# Altium footprint library Lib.PcbLib: 7 footprints
Each footprint in its own frame and in the unit in brackets; x right, y up, seen from the top. Pads: shape width x height; smd on the part's side, far side on the other; paste and mask are expansions set on the pad; w line width, h text height; cw(c..) or ccw(c..) is an arc to the next point about the centre after c.
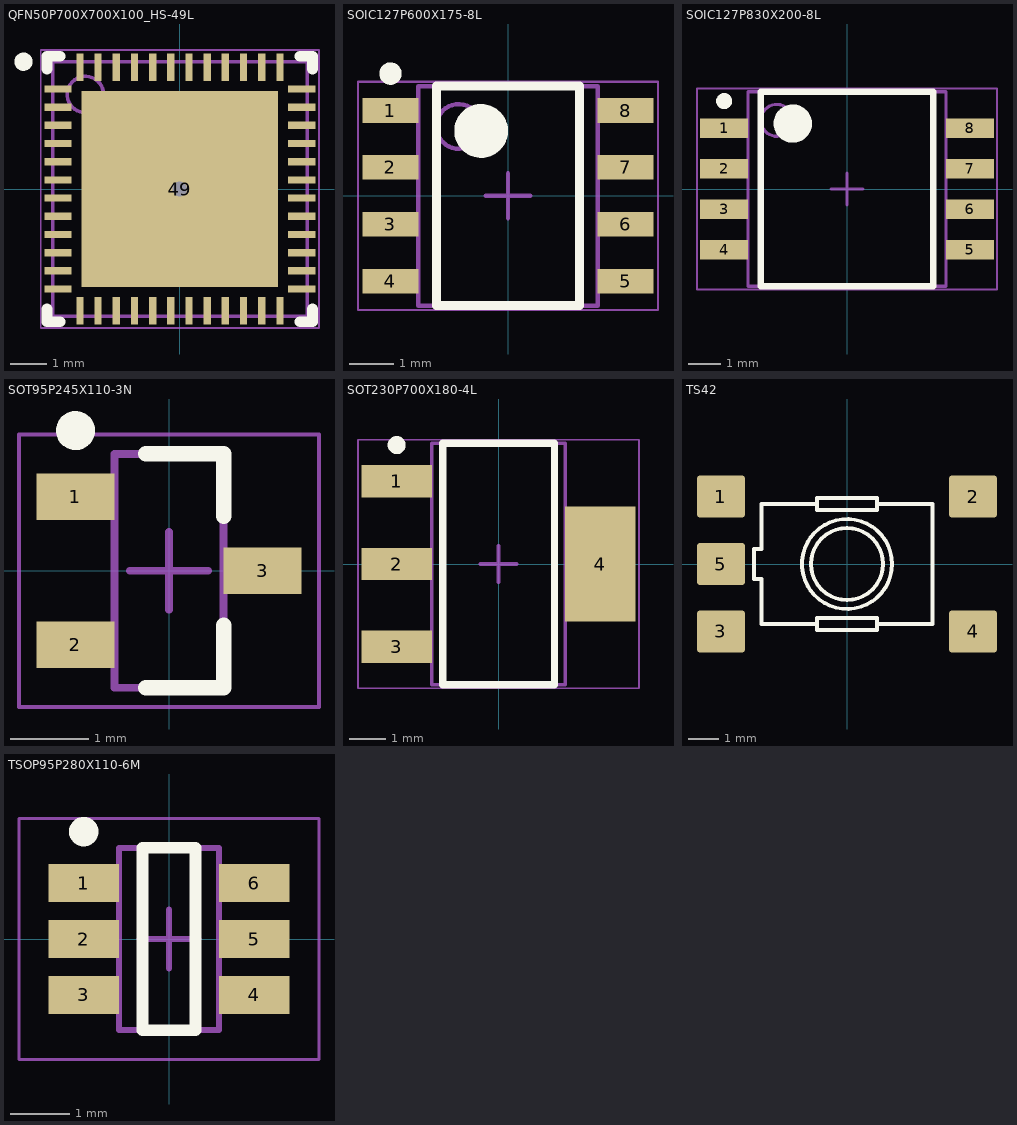
[diagram p0: the footprints below, top view; thin cyan lines are the x and y axes]

## QFN50P700X700X100_HS-49L [mm] "QFN, 48-Leads, Body 7.00x7.00mm, Pitch 0.50mm, Thermal Pad 5.40x5.40mm, IPC High Density"
height 1
pads (49):
  rect 0.75x0.2 smd: 1(-3.35,2.75) 2(-3.35,2.25) 3(-3.35,1.75) 4(-3.35,1.25) 5(-3.35,0.75) 6(-3.35,0.25) 7(-3.35,-0.25) 8(-3.35,-0.75) 9(-3.35,-1.25) 10(-3.35,-1.75) 11(-3.35,-2.25) 12(-3.35,-2.75) 25(3.35,-2.75) 26(3.35,-2.25) 27(3.35,-1.75) 28(3.35,-1.25) 29(3.35,-0.75) 30(3.35,-0.25) 31(3.35,0.25) 32(3.35,0.75) 33(3.35,1.25) 34(3.35,1.75) 35(3.35,2.25) 36(3.35,2.75)
  rect 0.2x0.75 smd: 13(-2.75,-3.35) 14(-2.25,-3.35) 15(-1.75,-3.35) 16(-1.25,-3.35) 17(-0.75,-3.35) 18(-0.25,-3.35) 19(0.25,-3.35) 20(0.75,-3.35) 21(1.25,-3.35) 22(1.75,-3.35) 23(2.25,-3.35) 24(2.75,-3.35) 37(2.75,3.35) 38(2.25,3.35) 39(1.75,3.35) 40(1.25,3.35) 41(0.75,3.35) 42(0.25,3.35) 43(-0.25,3.35) 44(-0.75,3.35) 45(-1.25,3.35) 46(-1.75,3.35) 47(-2.25,3.35) 48(-2.75,3.35)
  rect 5.4x5.4 smd: 49(0,0)
via 0,0 diameter 1 hole 0.4
Top Overlay:
  circle w0.25: c-4.3,3.5 r0.125
  lines w0.3: -3.65,-3.3 -3.65,-3.65 -3.3,-3.65 ; -3.65,3.3 -3.65,3.65 -3.3,3.65 ; 3.3,-3.65 3.65,-3.65 3.65,-3.3 ; 3.3,3.65 3.65,3.65 3.65,3.3
Mechanical 13:
  circle w0.1: c-2.6,2.6 r0.5
  lines w0.1: -3.5,-3.5 3.5,-3.5 3.5,3.5 -3.5,3.5 -3.5,-3.5
Mechanical 15:
  lines w0.05: -3.825,-3.825 3.825,-3.825 3.825,3.825 -3.825,3.825 -3.825,-3.825
  lines w0.1: -0.5,0 0.5,0 ; 0,-0.5 0,0.5
3D body "QFN50P700X700X100_HS-49L.step": height 1, standoff 0, extent -3.55,-3.55 3.55,3.55

## SOIC127P600X175-8L [mm] "SOIC, 8-Leads, Body 4.85x3.90mm, Pitch 1.27mm, IPC High Density"
height 1.75
pads (8):
  rect 1.25x0.55 smd: 1(-2.625,1.905) 2(-2.625,0.635) 3(-2.625,-0.635) 4(-2.625,-1.905) 5(2.625,-1.905) 6(2.625,-0.635) 7(2.625,0.635) 8(2.625,1.905)
Top Overlay:
  circle w0.6: c-0.6,1.45 r0.3
  circle w0.25: c-2.625,2.73 r0.125
  lines w0.2: -1.6,-2.45 1.6,-2.45 1.6,2.45 -1.6,2.45 -1.6,-2.45
Mechanical 13:
  circle w0.1: c-1.1,1.55 r0.5
  lines w0.1: -2,-2.45 2,-2.45 2,2.45 -2,2.45 -2,-2.45
Mechanical 15:
  lines w0.05: -3.35,-2.55 3.35,-2.55 3.35,2.55 -3.35,2.55 -3.35,-2.55
  lines w0.1: -0.5,0 0.5,0 ; 0,-0.5 0,0.5
3D body "SOIC127P600X175-8L.step": height 1.75, standoff 0, extent -3,-2.45 3,2.45

## SOIC127P830X200-8L [mm] "SOIC, 8-Leads, Body 6.05x5.62mm, Pitch 1.27mm, IPC High Density"
height 2
pads (8):
  rect 1.5x0.6 smd: 1(-3.85,1.905) 2(-3.85,0.635) 3(-3.85,-0.635) 4(-3.85,-1.905) 5(3.85,-1.905) 6(3.85,-0.635) 7(3.85,0.635) 8(3.85,1.905)
Top Overlay:
  circle w0.6: c-1.7,2.05 r0.3
  circle w0.25: c-3.85,2.755 r0.125
  lines w0.2: -2.7,-3.05 2.7,-3.05 2.7,3.05 -2.7,3.05 -2.7,-3.05
Mechanical 13:
  circle w0.1: c-2.2,2.15 r0.5
  lines w0.1: -3.1,-3.05 3.1,-3.05 3.1,3.05 -3.1,3.05 -3.1,-3.05
Mechanical 15:
  lines w0.05: -4.7,-3.15 4.7,-3.15 4.7,3.15 -4.7,3.15 -4.7,-3.15
  lines w0.1: -0.5,0 0.5,0 ; 0,-0.5 0,0.5
3D body "SOIC127P830X200-8L.step": height 2, standoff 0, extent -4.127,-3.05 4.127,3.05

## SOT95P245X110-3N [mm] "SOT23, 3-Leads, Body 2,90x2,45mm, Pitch 0,95mm, IPC Medium Density"
height 1.1
pads (3):
  rect 1x0.6 smd: 1(-1.2,0.95) 2(-1.2,-0.95) 3(1.2,0)
Top Overlay:
  circle w0.25: c-1.2,1.8 r0.125
  lines w0.2: -0.3,-1.5 0.7,-1.5 0.7,-0.7 ; -0.3,1.5 0.7,1.5 0.7,0.7
Mechanical 13:
  lines w0.1: -0.7,-1.5 0.7,-1.5 0.7,1.5 -0.7,1.5 -0.7,-1.5
Mechanical 15:
  lines w0.05: -1.925,-1.75 1.925,-1.75 1.925,1.75 -1.925,1.75 -1.925,-1.75
  lines w0.1: -0.5,0 0.5,0 ; 0,-0.5 0,0.5
3D body: height 1.1, standoff 0.05, extent -0.7,-1.5 0.7,1.5

## SOT230P700X180-4L [mm] "SOT223, 4-Leads, Body 6.50x7.00mm (avg), Pitch 2.30mm, IPC High Density"
height 1.8
pads (4):
  rect 1.95x0.9 smd: 1(-2.825,2.3) 2(-2.825,0) 3(-2.825,-2.3)
  rect 1.95x3.2 smd: 4(2.825,0)
Top Overlay:
  circle w0.25: c-2.825,3.3 r0.125
  lines w0.2: -1.55,-3.35 -1.55,3.35 1.55,3.35 1.55,-3.35 -1.55,-3.35
Mechanical 13:
  lines w0.1: -1.85,-3.35 -1.85,3.35 1.85,3.35 1.85,-3.35 -1.85,-3.35
Mechanical 15:
  lines w0.05: -3.9,-3.45 -3.9,3.45 3.9,3.45 3.9,-3.45 -3.9,-3.45
  lines w0.1: -0.5,0 0.5,0 ; 0,-0.5 0,0.5
3D body "SOT230P700X180-4L.step": height 1.8, standoff 0, extent -3.5,-3.35 3.5,3.35

## TS42 [mm]
pads (5):
  rrect15% 1.6x1.4 smd: 1(-4.2,2.25) 2(4.2,2.25) 3(-4.2,-2.25) 4(4.2,-2.25) 5(-4.2,0)
Top Overlay:
  circle w0.127: c0,0 r1.5
  circle w0.127: c0,0 r1.2
  lines w0.127: -1,-2 -1,-1.8 1,-1.8 1,-2 ; -1,-2 -1,-2.2 1,-2.2 1,-2 ; -1,-2 -2.85,-2 -2.85,-0.5 -3.1,-0.5 -3.1,0.5 -2.85,0.5 -2.85,2 -1,2 ; -1,2 -1,2.2 1,2.2 1,2 ; -1,2 -1,1.8 1,1.8 1,2 ; 1,-2 2.85,-2 2.85,2 1,2
Top Paste:
  rectangle: -4.699,-0.381 -3.81,0.381

## TSOP95P280X110-6M [mm] "TSOP, 6-Leads, Body 3,00x1,50mm, Pitch 0,95mm, IPC Low Density"
height 1.1
pads (6):
  rect 1.2x0.65 smd: 1(-1.45,0.95) 2(-1.45,0) 3(-1.45,-0.95) 4(1.45,-0.95) 5(1.45,0) 6(1.45,0.95)
Top Overlay:
  circle w0.25: c-1.45,1.825 r0.125
  lines w0.2: -0.45,-1.55 0.45,-1.55 0.45,1.55 -0.45,1.55 -0.45,-1.55
Mechanical 13:
  lines w0.1: -0.85,-1.55 0.85,-1.55 0.85,1.55 -0.85,1.55 -0.85,-1.55
Mechanical 15:
  lines w0.05: -2.55,-2.05 2.55,-2.05 2.55,2.05 -2.55,2.05 -2.55,-2.05
  lines w0.1: -0.5,0 0.5,0 ; 0,-0.5 0,0.5
3D body "TSOP95P280X110-6M.step": height 1.1, standoff 0, extent -1.375,-1.55 1.375,1.55